# Altium footprint library audio_mixer_pcb_lib.PcbLib: 24 footprints (part 2 of 2)
Each footprint in its own frame and in the unit in brackets; x right, y up, seen from the top. Pads: shape width x height; smd on the part's side, far side on the other; paste and mask are expansions set on the pad; w line width, h text height; cw(c..) or ccw(c..) is an arc to the next point about the centre after c.
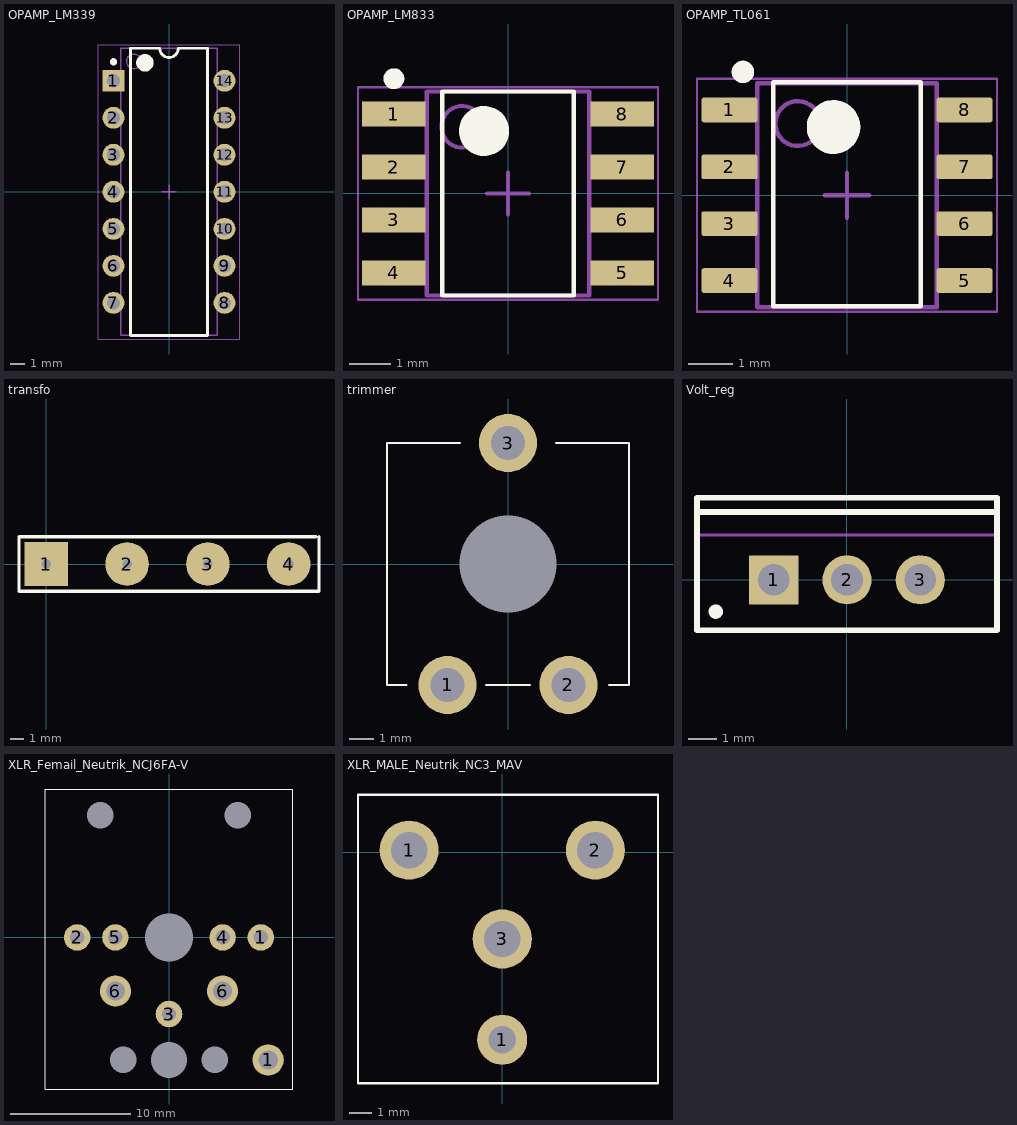
[diagram p1: the footprints below, top view; thin cyan lines are the x and y axes]

## OPAMP_LM339 [mm] "DIP, 14-Leads, Body 19.7x6.6mm, Pitch 2.54mm"
height 5.08
pads (14):
  rect 1.5x1.5 hole 0.9: 1(-3.81,7.62)
  round 1.5 hole 0.9: 2(-3.81,5.08) 3(-3.81,2.54) 4(-3.81,0) 5(-3.81,-2.54) 6(-3.81,-5.08) 7(-3.81,-7.62) 8(3.81,-7.62) 9(3.81,-5.08) 10(3.81,-2.54) 11(3.81,0) 12(3.81,2.54) 13(3.81,5.08) 14(3.81,7.62)
Top Overlay:
  circle w0.25: c-3.81,8.92 r0.125
  circle w0.6: c-1.65,8.85 r0.3
  lines w0.2: -2.65,-9.85 -2.65,9.85 -0.635,9.85 ccw(c0,9.85) 0.635,9.85 2.65,9.85 2.65,-9.85 -2.65,-9.85
Mechanical 1:
  text ".Designator" at -3.048,-0.508 h1.2
Mechanical 13:
  circle w0.1: c-2.4,8.95 r0.5
  lines w0.1: -3.3,-9.85 -3.3,9.85 3.3,9.85 3.3,-9.85 -3.3,-9.85
Mechanical 15:
  lines w0.05: -4.85,-10.1 -4.85,10.1 4.85,10.1 4.85,-10.1 -4.85,-10.1
  lines w0.1: -0.5,0 0.5,0 ; 0,-0.5 0,0.5
3D body: height 2.66, standoff 0, extent -3.945,7.12 -3.675,8.12
3D body: height 2.93, standoff 2.66, extent -3.945,7.12 -3.3,8.12
3D body: height 0, standoff -1.6, extent -3.945,7.26 -3.675,7.98
3D body: height 2.66, standoff 0, extent -3.945,4.58 -3.675,5.58
3D body: height 2.93, standoff 2.66, extent -3.945,4.58 -3.3,5.58
3D body: height 0, standoff -1.6, extent -3.945,4.72 -3.675,5.44
3D body: height 2.66, standoff 0, extent -3.945,2.04 -3.675,3.04
3D body: height 2.93, standoff 2.66, extent -3.945,2.04 -3.3,3.04
3D body: height 0, standoff -1.6, extent -3.945,2.18 -3.675,2.9
3D body: height 2.66, standoff 0, extent -3.945,-0.5 -3.675,0.5
3D body: height 2.93, standoff 2.66, extent -3.945,-0.5 -3.3,0.5
3D body: height 0, standoff -1.6, extent -3.945,-0.36 -3.675,0.36
3D body: height 2.66, standoff 0, extent -3.945,-3.04 -3.675,-2.04
3D body: height 2.93, standoff 2.66, extent -3.945,-3.04 -3.3,-2.04
3D body: height 0, standoff -1.6, extent -3.945,-2.9 -3.675,-2.18
3D body: height 2.66, standoff 0, extent -3.945,-5.58 -3.675,-4.58
3D body: height 2.93, standoff 2.66, extent -3.945,-5.58 -3.3,-4.58
3D body: height 0, standoff -1.6, extent -3.945,-5.44 -3.675,-4.72
3D body: height 2.66, standoff 0, extent -3.945,-8.12 -3.675,-7.12
3D body: height 2.93, standoff 2.66, extent -3.945,-8.12 -3.3,-7.12
3D body: height 0, standoff -1.6, extent -3.945,-7.98 -3.675,-7.26
3D body: height 2.66, standoff 0, extent 3.675,-8.12 3.945,-7.12
3D body: height 2.93, standoff 2.66, extent 3.3,-8.12 3.945,-7.12
3D body: height 0, standoff -1.6, extent 3.675,-7.98 3.945,-7.26
3D body: height 2.66, standoff 0, extent 3.675,-5.58 3.945,-4.58
3D body: height 2.93, standoff 2.66, extent 3.3,-5.58 3.945,-4.58
3D body: height 0, standoff -1.6, extent 3.675,-5.44 3.945,-4.72
3D body: height 2.66, standoff 0, extent 3.675,-3.04 3.945,-2.04
3D body: height 2.93, standoff 2.66, extent 3.3,-3.04 3.945,-2.04
3D body: height 0, standoff -1.6, extent 3.675,-2.9 3.945,-2.18
3D body: height 2.66, standoff 0, extent 3.675,-0.5 3.945,0.5
3D body: height 2.93, standoff 2.66, extent 3.3,-0.5 3.945,0.5
3D body: height 0, standoff -1.6, extent 3.675,-0.36 3.945,0.36
3D body: height 2.66, standoff 0, extent 3.675,2.04 3.945,3.04
3D body: height 2.93, standoff 2.66, extent 3.3,2.04 3.945,3.04
3D body: height 0, standoff -1.6, extent 3.675,2.18 3.945,2.9
3D body: height 2.66, standoff 0, extent 3.675,4.58 3.945,5.58
3D body: height 2.93, standoff 2.66, extent 3.3,4.58 3.945,5.58
3D body: height 0, standoff -1.6, extent 3.675,4.72 3.945,5.44
3D body: height 2.66, standoff 0, extent 3.675,7.12 3.945,8.12
3D body: height 2.93, standoff 2.66, extent 3.3,7.12 3.945,8.12
3D body: height 0, standoff -1.6, extent 3.675,7.26 3.945,7.98
3D body: height 5.08, standoff 0.51, extent -3.3,-9.85 3.3,9.85

## OPAMP_LM833 [mm] "SOIC, 8-Leads, Body 4.9x3.9mm, Pitch 1.27mm"
height 1.75
pads (8):
  rect 1.52x0.6 smd: 1(-2.74,1.905) 2(-2.74,0.635) 3(-2.74,-0.635) 4(-2.74,-1.905) 5(2.74,-1.905) 6(2.74,-0.635) 7(2.74,0.635) 8(2.74,1.905)
Top Overlay:
  circle w0.25: c-2.74,2.755 r0.125
  circle w0.6: c-0.575,1.5 r0.3
  lines w0.1: -1.58,-2.45 -1.58,2.45 1.58,2.45 1.58,-2.45 -1.58,-2.45
Mechanical 13:
  circle w0.1: c-1.1,1.6 r0.5
  lines w0.1: -1.95,-2.45 -1.95,2.45 1.95,2.45 1.95,-2.45 -1.95,-2.45
Mechanical 15:
  lines w0.05: -3.6,-2.55 -3.6,2.55 3.6,2.55 3.6,-2.55 -3.6,-2.55
  lines w0.1: -0.5,0 0.5,0 ; 0,-0.5 0,0.5
3D body: height 1.75, standoff 0.1, extent -1.95,-2.45 1.95,2.45

## OPAMP_TL061 [mm] "SOIC, 8-Leads, Body 5x4mm, Pitch 1.27mm, IPC High Density"
height 1.75
pads (8):
  rrect18% 1.25x0.55 smd: 1(-2.625,1.905) 2(-2.625,0.635) 3(-2.625,-0.635) 4(-2.625,-1.905) 5(2.625,-1.905) 6(2.625,-0.635) 7(2.625,0.635) 8(2.625,1.905)
Top Overlay:
  circle w0.6: c-0.3,1.524 r0.3
  circle w0.25: c-2.325,2.754 r0.125
  lines w0.1: -1.651,-2.476 1.651,-2.476 1.651,2.524 -1.651,2.524 -1.651,-2.476
Mechanical 1:
  text ".Designator" at -1.397,-0.254 h0.6
Mechanical 13:
  circle w0.1: c-1.1,1.6 r0.5
  lines w0.1: -2,-2.5 2,-2.5 2,2.5 -2,2.5 -2,-2.5
Mechanical 15:
  lines w0.05: -3.35,-2.6 3.35,-2.6 3.35,2.6 -3.35,2.6 -3.35,-2.6
  lines w0.1: -0.5,0 0.5,0 ; 0,-0.5 0,0.5
3D body "SOIC-8akaD0008AakaM08A.stp": height 1.63, standoff 0, extent -3,-2.45 3,2.45

## transfo [mm]
pads (4):
  rect 3.24x3.24 hole 0.7 square: 1(0,0)
  round 3.24 hole 0.7: 2(6,0) 3(12,0) 4(18,0)
Top Overlay:
  lines w0.254: 20,2.032 -2.032,2.032 -2.032,-2.032 20.254,-2.032 20.254,-1.016 20.254,1.016 20.254,2.032

## trimmer [mm]
pads (4):
  round 2.4 hole 1.4: 1(-2.5,-5) 2(2.5,-5) 3(0,5)
  round 0 hole 4 unplated: ""(0,0)
Top Overlay:
  lines w0.1: -4.2,-5 -5,-5 -5,5 -2,5 ; -0.9,-5 0.9,-5 ; 2,5 5,5 5,-5 4.191,-5
3D body "User Library-Trimpot smd V10.step": height 6.1, standoff -3.2, extent -5.15,-5.15 5.15,5.15

## Volt_reg [mm] "TO, Thru-Hole, Vertical, Heatsink Mounted; 3 In-Line Leads; Pitch 2.54 mm"
height 19.7
pads (3):
  rect 1.7x1.7 hole 1.1: 1(-2.54,0)
  round 1.7 hole 1.1: 2(0,0) 3(2.54,0)
Top Overlay:
  circle w0.25: c-4.55,-1.1 r0.125
  lines w0.2: -5.2,2.35 5.2,2.35 ; -5.2,-1.75 -5.2,2.85 5.2,2.85 5.2,-1.75 -5.2,-1.75
Mechanical 13:
  lines w0.1: -5.2,1.55 5.2,1.55 ; -5.2,-1.75 5.2,-1.75 5.2,2.85 -5.2,2.85 -5.2,-1.75
Mechanical 15:
  lines w0.1: -0.5,0 0.5,0 ; 0,-0.5 0,0.5
3D body: height 19.7, standoff 13.05, extent -5.199,1.551 5.199,2.849
3D body: height 13.05, standoff 3.5, extent -5.25,-1.8 5.25,2.9

## XLR_Femail_Neutrik_NCJ6FA-V [mm]
pads (14):
  round 2.2 hole 1.2: 1(7.62,0) 2(-7.62,0) 3(0,-6.35) 4(4.445,0) 5(-4.445,0)
  round 2.6 hole 1.6: 1(8.225,-10.16) 6(-4.445,-4.445) 6(4.445,-4.445)
  round 0 hole 2.2 unplated: ""(-5.715,10.16) ""(-3.81,-10.16) ""(3.81,-10.16) ""(5.715,10.16)
  round 0 hole 3 unplated: ""(0,-10.16)
  round 0 hole 4 unplated: ""(0,0)
Top Overlay:
  lines w0.1: -10.287,-12.573 10.287,-12.573 10.287,12.319 -10.287,12.319 -10.287,-12.573
3D body "ncj6fav-1.stp": height 32.85, standoff -3.1, extent -12.499,-14 12.5,16.124

## XLR_MALE_Neutrik_NC3_MAV [mm]
pads (4):
  round 2.6 hole 1.6: 1(-4.1,0.1) 2(4.1,0.1) 3(0,-3.81)
  round 2.2 hole 1.2: 1(0,-8.25)
Top Overlay:
  lines w0.1: -6.35,-10.16 -6.35,2.54 6.858,2.54 6.858,-10.16 -6.35,-10.16
3D body "male_xlr.step": height 27.21, standoff -2.99, extent -12.554,-14.666 12.446,12.634